# Altium footprint library PCB_Test_2022-12-17.PcbLib: 25 footprints (part 1 of 2)
Each footprint in its own frame and in the unit in brackets; x right, y up, seen from the top. Pads: shape width x height; smd on the part's side, far side on the other; paste and mask are expansions set on the pad; w line width, h text height; cw(c..) or ccw(c..) is an arc to the next point about the centre after c.
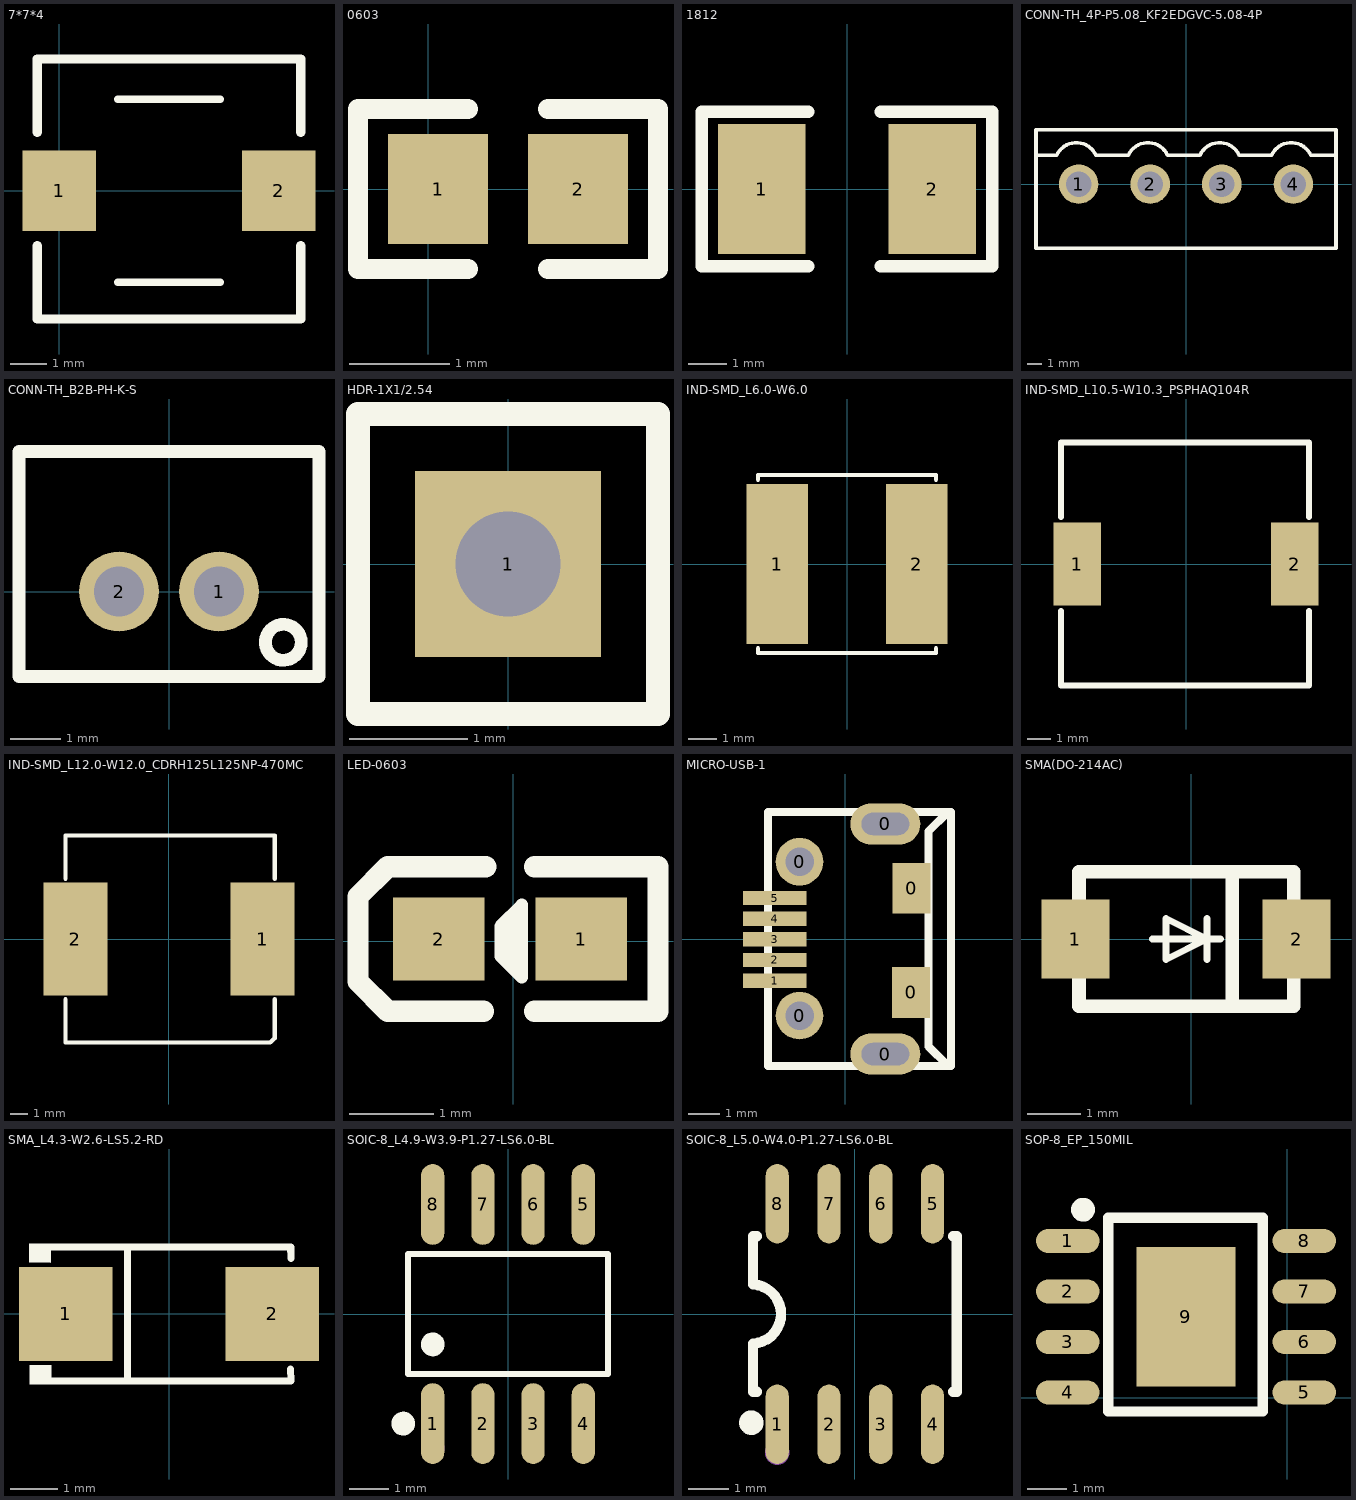
[diagram p0: the footprints below, top view; thin cyan lines are the x and y axes]

## 7*7*4 [mil]
pads (2):
  rect 79x86.61 smd: 1(0,0) 2(236,0)
Top Overlay:
  lines w7.9: 62.9,-98.4 173.1,-98.4 ; 62.9,98.4 173.1,98.4
  lines w10: -23.7,-59.1 -23.7,-137.8 259.7,-137.8 259.7,-59.1 ; -23.7,63 -23.7,141.7 259.7,141.7 259.7,63

## 0603 [mm]
pads (2):
  rect 1x1.1 smd: 1(0.1,0) 2(1.5,0)
Top Overlay:
  lines w0.2: 0.4,-0.8 -0.7,-0.8 -0.7,-0.2 -0.7,0.8 0.4,0.8 ; 1.2,-0.8 2.3,-0.8 2.3,0.8 1.2,0.8

## 1812 [mil]
pads (2):
  rect 90x133.86 smd: 1(-88,0) 2(88,0)
Top Overlay:
  lines w13: -40,-80 -150,-80 -150,80 -40,80 ; 35,-80 150,-80 150,80 35,80

## CONN-TH_4P-P5.08_KF2EDGVC-5.08-4P [mm]
pads (4):
  round 2.8 hole 1.8: 1(-7.62,0) 2(-2.54,0) 3(2.54,0) 4(7.62,0)
Top Overlay:
  lines w0.254: -10.64,2.032 -9.177,2.032 cw(c-7.78,1.407) -6.383,2.032 -4.097,2.032 cw(c-2.7,1.407) -1.303,2.032 0.983,2.032 cw(c2.38,1.407) 3.777,2.032 6.063,2.032 cw(c7.46,1.407) 8.857,2.032 10.64,2.032 ; -10.64,-4.55 10.64,-4.55 10.64,3.85 -10.64,3.85 -10.64,-4.55

## CONN-TH_B2B-PH-K-S [mm]
pads (2):
  round 1.6 hole 1: 1(1,0) 2(-1,0)
Top Overlay:
  circle w0.254: c2.286,-1.016 r0.359
  lines w0.254: -3,-1.7 -3,2.8 3,2.8 3,-1.7 -3,-1.7

## HDR-1X1/2.54 [mil]
pads (1):
  rect 62x62 hole 35: 1(0,0)
Top Overlay:
  lines w7.99: 50,-50 50,-25
  lines w8: 50,-50 -50,-50 -50,50 50,50 50,-25

## IND-SMD_L6.0-W6.0 [mm]
pads (2):
  rect 2.2x5.72 smd: 1(-2.5,0) 2(2.5,0)
Top Overlay:
  lines w0.152: -3.176,-3.012 -3.176,-3.176 3.176,-3.176 3.176,-3.012 ; -3.176,3.012 -3.176,3.176 3.176,3.176 3.176,3.012

## IND-SMD_L10.5-W10.3_PSPHAQ104R [mm]
pads (2):
  rect 2x3.5 smd: 1(-4.605,0) 2(4.605,0)
Top Overlay:
  lines w0.254: -5.295,-1.981 -5.295,-5.15 5.205,-5.15 5.205,-1.981 ; -5.295,1.981 -5.295,5.15 5.205,5.15 5.205,1.981

## IND-SMD_L12.0-W12.0_CDRH125L125NP-470MC [mm]
pads (2):
  rect 3.7x6.5 smd: 1(5.4,0) 2(-5.4,0)
Top Overlay:
  lines w0.254: -5.969,-3.481 -5.969,-5.969 5.842,-5.969 6.096,-5.715 6.096,-3.481 ; -5.969,3.481 -5.969,5.969 6.096,5.969 6.096,3.481

## LED-0603 [mil]
pads (2):
  rect 43x39 smd: 1(32,1) 2(-35,1)
Top Overlay:
  lines w5.91: -1,-10 -1,10 ; 4,-14 4,17 -6,7 -6,-7 4,-17 4,-8
  lines w10: -14,-33 -59,-33 -73,-19 -73,21 -59,35 -13,35 ; 10,-33 68,-33 68,35 10,35

## MICRO-USB-1 [mm]
pads (11):
  round 1.5 hole 0.9: 0(-1.44,-2.41) 0(-1.44,2.431)
  oval 2.2x1.3 hole 0.7 slot 1.5 at 0 deg: 0(1.26,-3.619) 0(1.26,3.619)
  rect 1.2x1.6 smd: 0(2.071,-1.683) 0(2.087,1.596)
  rect 2x0.45 smd: 1(-2.225,-1.31) 2(-2.225,-0.66) 3(-2.225,-0.01) 4(-2.225,0.64) 5(-2.225,1.29)
Top Overlay:
  lines w0.254: -2.43,4 -2.43,-4 3.31,-4 ; -2.42,4 3.32,4 ; 3.31,-3.97 3.21,-3.97 2.62,-3.38 2.62,3.39 3.21,3.98 3.33,3.98 ; 3.33,-4 3.33,4

## SMA(DO-214AC) [mil]
pads (2):
  rect 50x57.9 smd: 1(-85,0) 2(77,0)
Top Overlay:
  lines w5: -28.7,0 21.3,0 ; 11.3,-15 11.3,0 ; 11.3,15 11.3,0 ; 11.3,0 -18.7,15 -18.7,0 -18.7,-15 11.3,0
  lines w10: 30,-49 30,49 ; -82.4,-49.2 -82.4,49.2 75,49.2 75,-49.2 -82.4,-49.2

## SMA_L4.3-W2.6-LS5.2-RD [mm]
pads (2):
  rect 2x2 smd: 1(-2.2,0) 2(2.2,0)
Top Overlay:
  region: -2.512,-1.096 -2.513,-1.503 -2.973,-1.498 -2.969,-1.096
  region: -2.52,1.502 -2.521,1.096 -2.981,1.1 -2.977,1.502
  lines w0.152: -2.596,-1.426 2.596,-1.426 ; -2.596,1.426 2.596,1.426 2.603,1.187 ; -0.884,-1.426 -0.884,1.426 ; 2.593,-1.176 2.6,-1.415
Mechanical 15:
  region: 2.014,-0.675 2.014,0.675 1.811,0.675 1.811,-0.675
  region: 2.29,-0.09 2.29,0.112 1.48,0.112 1.48,-0.09
  region: -2.317,-0.101 -2.317,0.101 -1.507,0.101 -1.507,-0.101

## SOIC-8_L4.9-W3.9-P1.27-LS6.0-BL [mm]
pads (8):
  oval 0.588x2.045 smd: 1(-1.905,-2.773) 2(-0.635,-2.773) 3(0.635,-2.773) 4(1.905,-2.773) 5(1.905,2.773) 6(0.635,2.773) 7(-0.635,2.773) 8(-1.905,2.773)
Top Overlay:
  circle w0.3: c-2.652,-2.772 r0.15
  circle w0.3: c-1.905,-0.769 r0.15
  lines w0.152: -2.526,-1.521 2.526,-1.521 2.526,1.521 -2.526,1.521 -2.526,-1.521
Mechanical 15:
  circle w0.3: c-1.905,-3.4 r0.15

## SOIC-8_L5.0-W4.0-P1.27-LS6.0-BL [mil]
pads (8):
  oval 22.38x76.78 smd: 1(-75,-106.5) 2(-25,-106.5) 3(25,-106.5) 4(75,-106.5) 5(75,106.5) 6(25,106.5) 7(-25,106.5) 8(-75,106.5)
Top Overlay:
  circle w11.81: c-100,-105 r5.91
  lines w10: -98.43,-28.61 ccw(c-99.99,0) -98.23,28.59 ; -98.42,-28.61 -98.42,-59.05 -98.42,-75 -94.83,-75 ; -98.42,28.59 -98.42,59.05 -98.42,75 -94.83,75 ; 94.83,-75 98.42,-75 98.42,-59.05 98.42,59.05 98.42,75 94.83,75
Mechanical 15:
  circle w11.81: c-75,-133.86 r5.91

## SOP-8_EP_150MIL [mm]
pads (9):
  oval 1.6x0.6 smd: 1(-5.512,3.937) 2(-5.512,2.667) 3(-5.512,1.397) 4(-5.512,0.127) 5(0.432,0.127) 6(0.432,1.397) 7(0.432,2.667) 8(0.432,3.937)
  rect 2.5x3.5 smd: 9(-2.54,2.032)
Top Overlay:
  lines w0.254: -4.496,4.521 -4.496,-0.356 -0.61,-0.356 -0.61,4.521 -4.47,4.521
  lines w0.3: -4.978,4.722 cw(c-5.128,4.723) -4.978,4.724